# Altium integrated library Gennum Amplifier Pre-Amplifier.IntLib: 16 symbols
Pins are listed as number, name and electrical type; pins without a type are passive.

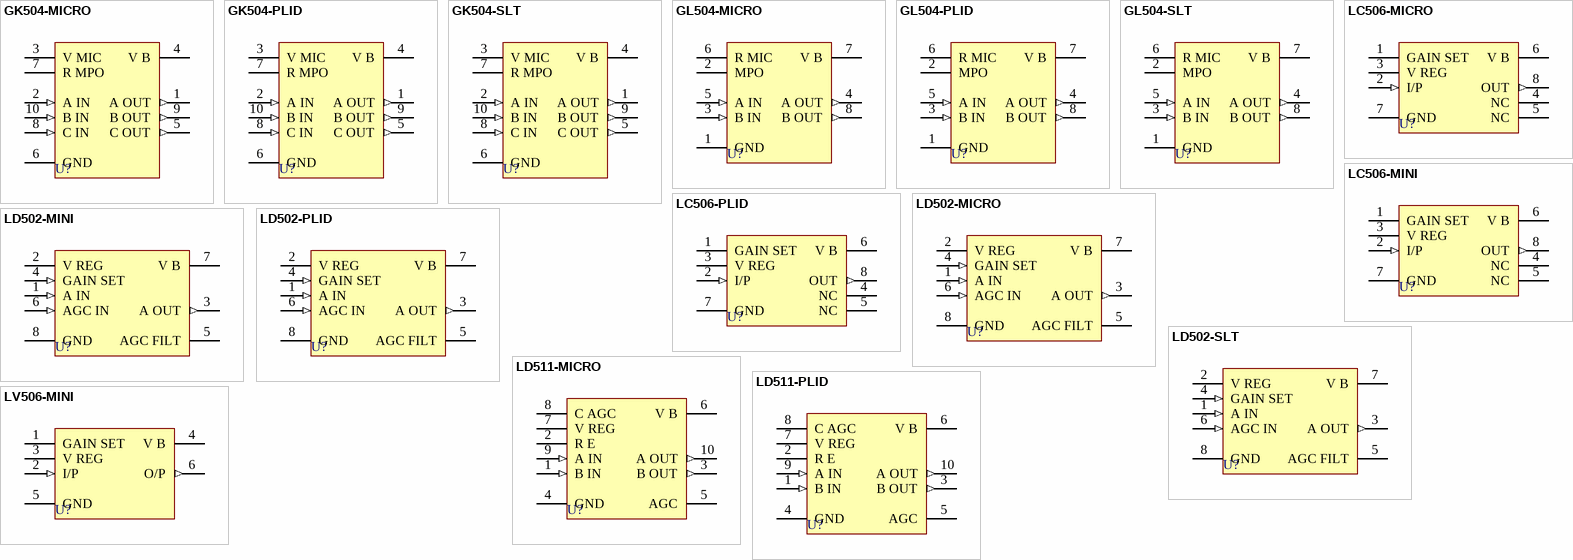
[diagram p0: symbols GK504-MICRO to LV506-MINI]

## GK504-MICRO
designator U?
Low Current Preamplifier with Output Limiting; Published: 8-Jun-2000; LatestRevisionDate: 04-Mar-2005; LatestRevisionNote: Stylized 3D Model Added.; DatasheetVersion: May-1998; PackageReference: MICRO10; Publisher: Altium Limited; PackageDescription: DFP; 10 Leads; Body 3.6 x 3.3 mm (LxW max); Pitch 0.635 mm; ComponentLink1Description: Manufacturer Link; ComponentLink1URL: http://www.gennum.com/index.html; ComponentLink2Description: Datasheet; ComponentLink2URL: http://www.gennum.com/hip/pdffiles/52046DOC.pdf
footprint MICRO10 (DFP; 10 Leads; Body 3.6 x 3.3 mm (LxW max); Pitch 0.635 mm)
3D model MICRO10 (DFP; 10 Leads; Body 3.6 x 3.3 mm (LxW max); Pitch 0.635 mm)
pins: 1 A OUT (out), 2 A IN (in), 3 V MIC, 4 V B (power), 5 C OUT (out), 6 GND (power), 7 R MPO, 8 C IN (in), 9 B OUT (out), 10 B IN (in)

## GK504-PLID
designator U?
Low Current Preamplifier with Output Limiting; Published: 8-Jun-2000; LatestRevisionDate: 17-Jul-2002; LatestRevisionNote: Re-released for DXP Platform.; DatasheetVersion: May-1998; PackageVersion: 1992; PackageReference: PLID10; Publisher: Altium Limited; PackageDescription: Small Outline; 10 C-Bend Leads; Body Width 3.2 mm; Pitch 0.635 mm; ComponentLink1Description: Manufacturer Link; ComponentLink1URL: http://www.gennum.com/index.html; ComponentLink2Description: Datasheet; ComponentLink2URL: http://www.gennum.com/hip/pdffiles/52046DOC.pdf
footprint PLID10 (Small Outline; 10 C-Bend Leads; Body Width 3.2 mm; Pitch 0.635 mm)
pins: 1 A OUT (out), 2 A IN (in), 3 V MIC, 4 V B (power), 5 C OUT (out), 6 GND (power), 7 R MPO, 8 C IN (in), 9 B OUT (out), 10 B IN (in)

## GK504-SLT
designator U?
Low Current Preamplifier with Output Limiting; Published: 8-Jun-2000; LatestRevisionDate: 17-Jul-2002; LatestRevisionNote: Re-released for DXP Platform.; DatasheetVersion: May-1998; PackageReference: SLT10; Publisher: Altium Limited; PackageDescription: Shrink DIP; 10 Stub Leads; Row Spacing 2.28 mm; Pitch 0.5 mm; ComponentLink1Description: Manufacturer Link; ComponentLink1URL: http://www.gennum.com/index.html; ComponentLink2Description: Datasheet; ComponentLink2URL: http://www.gennum.com/hip/pdffiles/52046DOC.pdf
footprint SLT10 (Shrink DIP; 10 Stub Leads; Row Spacing 2.28 mm; Pitch 0.5 mm)
pins: 1 A OUT (out), 2 A IN (in), 3 V MIC, 4 V B (power), 5 C OUT (out), 6 GND (power), 7 R MPO, 8 C IN (in), 9 B OUT (out), 10 B IN (in)

## GL504-MICRO
designator U?
Low Current Preamplifier with Output Limiting; Published: 8-Jun-2000; LatestRevisionDate: 04-Mar-2005; LatestRevisionNote: Stylized 3D Model Added.; DatasheetVersion: May-1998; PackageReference: MICRO8; Publisher: Altium Limited; PackageDescription: DFP; 8 Leads; Body 2.9 x 3.3 mm (LxW max); Pitch 0.635 mm; ComponentLink1Description: Manufacturer Link; ComponentLink1URL: http://www.gennum.com/index.html; ComponentLink2Description: Datasheet; ComponentLink2URL: http://www.gennum.com/hip/pdffiles/52046DOC.pdf
footprint MICRO8 (DFP; 8 Leads; Body 2.9 x 3.3 mm (LxW max); Pitch 0.635 mm)
3D model MICRO8 (DFP; 8 Leads; Body 2.9 x 3.3 mm (LxW max); Pitch 0.635 mm)
pins: 1 GND (power), 2 MPO, 3 B IN (in), 4 A OUT (out), 5 A IN (in), 6 R MIC, 7 V B (power), 8 B OUT (out)

## GL504-PLID
designator U?
Low Current Preamplifier with Output Limiting; Published: 8-Jun-2000; LatestRevisionDate: 17-Jul-2002; LatestRevisionNote: Re-released for DXP Platform.; DatasheetVersion: May-1998; PackageVersion: 1992; PackageReference: PLID8; Publisher: Altium Limited; PackageDescription: Small Outline; 8 C-Bend Leads; Body Width 3.2 mm; Pitch 0.635 mm; ComponentLink1Description: Manufacturer Link; ComponentLink1URL: http://www.gennum.com/index.html; ComponentLink2Description: Datasheet; ComponentLink2URL: http://www.gennum.com/hip/pdffiles/52046DOC.pdf
footprint PLID8 (Small Outline; 8 C-Bend Leads; Body Width 3.2 mm; Pitch 0.635 mm)
pins: 1 GND (power), 2 MPO, 3 B IN (in), 4 A OUT (out), 5 A IN (in), 6 R MIC, 7 V B (power), 8 B OUT (out)

## GL504-SLT
designator U?
Low Current Preamplifier with Output Limiting; Published: 8-Jun-2000; LatestRevisionDate: 17-Jul-2002; LatestRevisionNote: Re-released for DXP Platform.; DatasheetVersion: May-1998; PackageReference: SLT8; Publisher: Altium Limited; PackageDescription: Shrink DIP; 8 Stub Leads; Row Spacing 2.28 mm; Pitch 0.5 mm; ComponentLink1Description: Manufacturer Link; ComponentLink1URL: http://www.gennum.com/index.html; ComponentLink2Description: Datasheet; ComponentLink2URL: http://www.gennum.com/hip/pdffiles/52046DOC.pdf
footprint SLT8 (Shrink DIP; 8 Stub Leads; Row Spacing 2.28 mm; Pitch 0.5 mm)
pins: 1 GND (power), 2 MPO, 3 B IN (in), 4 A OUT (out), 5 A IN (in), 6 R MIC, 7 V B (power), 8 B OUT (out)

## LC506-MICRO
designator U?
Linear Class A Preamplifiers; Note: Pins 4,5 are No Connection; Published: 8-Jun-2000; LatestRevisionDate: 04-Mar-2005; LatestRevisionNote: Stylized 3D Model Added.; DatasheetVersion: Jan-1996; PackageReference: MICRO8; Publisher: Altium Limited; PackageDescription: DFP; 8 Leads; Body 2.9 x 3.3 mm (LxW max); Pitch 0.635 mm; ComponentLink1Description: Manufacturer Link; ComponentLink1URL: http://www.gennum.com/index.html; ComponentLink2Description: Datasheet; ComponentLink2URL: http://www.gennum.com/hip/pdffiles/50026DOC.pdf
footprint MICRO8 (DFP; 8 Leads; Body 2.9 x 3.3 mm (LxW max); Pitch 0.635 mm)
3D model MICRO8 (DFP; 8 Leads; Body 2.9 x 3.3 mm (LxW max); Pitch 0.635 mm)
pins: 1 GAIN SET, 2 I/P (in), 3 V REG, 4 NC, 5 NC, 6 V B (power), 7 GND (power), 8 OUT (out)

## LC506-MINI
designator U?
Linear Class A Preamplifiers; Note: Pins 4,5 are No Connection; Published: 8-Jun-2000; LatestRevisionDate: 04-Mar-2005; LatestRevisionNote: Stylized 3D Model Added.; DatasheetVersion: Jan-1996; PackageReference: MINI8; Publisher: Altium Limited; PackageDescription: DFP; 8 Leads; Body 3.7 x 3.6 mm (LxW max); Pitch 1.27 mm; ComponentLink1Description: Manufacturer Link; ComponentLink1URL: http://www.gennum.com/index.html; ComponentLink2Description: Datasheet; ComponentLink2URL: http://www.gennum.com/hip/pdffiles/50026DOC.pdf
footprint MINI8 (DFP; 8 Leads; Body 3.7 x 3.6 mm (LxW max); Pitch 1.27 mm)
3D model MINI8 (DFP; 8 Leads; Body 3.7 x 3.6 mm (LxW max); Pitch 1.27 mm)
pins: 1 GAIN SET, 2 I/P (in), 3 V REG, 4 NC, 5 NC, 6 V B (power), 7 GND (power), 8 OUT (out)

## LC506-PLID
designator U?
Linear Class A Preamplifiers; Note: Pins 4,5 are No Connection; Published: 8-Jun-2000; LatestRevisionDate: 17-Jul-2002; LatestRevisionNote: Re-released for DXP Platform.; DatasheetVersion: Jan-1996; PackageVersion: 1992; PackageReference: PLID8; Publisher: Altium Limited; PackageDescription: Small Outline; 8 C-Bend Leads; Body Width 3.2 mm; Pitch 0.635 mm; ComponentLink1Description: Manufacturer Link; ComponentLink1URL: http://www.gennum.com/index.html; ComponentLink2Description: Datasheet; ComponentLink2URL: http://www.gennum.com/hip/pdffiles/50026DOC.pdf
footprint PLID8 (Small Outline; 8 C-Bend Leads; Body Width 3.2 mm; Pitch 0.635 mm)
pins: 1 GAIN SET, 2 I/P (in), 3 V REG, 4 NC, 5 NC, 6 V B (power), 7 GND (power), 8 OUT (out)

## LD502-MICRO
designator U?
Low Distortion AGC Compression Amplifier; Published: 8-Jun-2000; LatestRevisionDate: 04-Mar-2005; LatestRevisionNote: Stylized 3D Model Added.; DatasheetVersion: Mar-1994; PackageReference: MICRO8; Publisher: Altium Limited; PackageDescription: DFP; 8 Leads; Body 2.9 x 3.3 mm (LxW max); Pitch 0.635 mm; ComponentLink1Description: Manufacturer Link; ComponentLink1URL: http://www.gennum.com/index.html; ComponentLink2Description: Datasheet; ComponentLink2URL: http://www.gennum.com/hip/pdffiles/50043DOC.pdf
footprint MICRO8 (DFP; 8 Leads; Body 2.9 x 3.3 mm (LxW max); Pitch 0.635 mm)
3D model MICRO8 (DFP; 8 Leads; Body 2.9 x 3.3 mm (LxW max); Pitch 0.635 mm)
pins: 1 A IN (in), 2 V REG, 3 A OUT (out), 4 GAIN SET (in), 5 AGC FILT, 6 AGC IN (in), 7 V B (power), 8 GND (power)

## LD502-MINI
designator U?
Low Distortion AGC Compression Amplifier; Published: 8-Jun-2000; LatestRevisionDate: 04-Mar-2005; LatestRevisionNote: Stylized 3D Model Added.; DatasheetVersion: Mar-1994; PackageReference: MINI8; Publisher: Altium Limited; PackageDescription: DFP; 8 Leads; Body 3.7 x 3.6 mm (LxW max); Pitch 1.27 mm; ComponentLink1Description: Manufacturer Link; ComponentLink1URL: http://www.gennum.com/index.html; ComponentLink2Description: Datasheet; ComponentLink2URL: http://www.gennum.com/hip/pdffiles/50043DOC.pdf
footprint MINI8 (DFP; 8 Leads; Body 3.7 x 3.6 mm (LxW max); Pitch 1.27 mm)
3D model MINI8 (DFP; 8 Leads; Body 3.7 x 3.6 mm (LxW max); Pitch 1.27 mm)
pins: 1 A IN (in), 2 V REG, 3 A OUT (out), 4 GAIN SET (in), 5 AGC FILT, 6 AGC IN (in), 7 V B (power), 8 GND (power)

## LD502-PLID
designator U?
Low Distortion AGC Compression Amplifier; Published: 8-Jun-2000; LatestRevisionDate: 17-Jul-2002; LatestRevisionNote: Re-released for DXP Platform.; DatasheetVersion: Mar-1994; PackageVersion: 1992; PackageReference: PLID8; Publisher: Altium Limited; PackageDescription: Small Outline; 8 C-Bend Leads; Body Width 3.2 mm; Pitch 0.635 mm; ComponentLink1Description: Manufacturer Link; ComponentLink1URL: http://www.gennum.com/index.html; ComponentLink2Description: Datasheet; ComponentLink2URL: http://www.gennum.com/hip/pdffiles/50043DOC.pdf
footprint PLID8 (Small Outline; 8 C-Bend Leads; Body Width 3.2 mm; Pitch 0.635 mm)
pins: 1 A IN (in), 2 V REG, 3 A OUT (out), 4 GAIN SET (in), 5 AGC FILT, 6 AGC IN (in), 7 V B (power), 8 GND (power)

## LD502-SLT
designator U?
Low Distortion AGC Compression Amplifier; Published: 8-Jun-2000; LatestRevisionDate: 17-Jul-2002; LatestRevisionNote: Re-released for DXP Platform.; DatasheetVersion: Mar-1994; PackageReference: SLT8; Publisher: Altium Limited; PackageDescription: Shrink DIP; 8 Stub Leads; Row Spacing 2.28 mm; Pitch 0.5 mm; ComponentLink1Description: Manufacturer Link; ComponentLink1URL: http://www.gennum.com/index.html; ComponentLink2Description: Datasheet; ComponentLink2URL: http://www.gennum.com/hip/pdffiles/50043DOC.pdf
footprint SLT8 (Shrink DIP; 8 Stub Leads; Row Spacing 2.28 mm; Pitch 0.5 mm)
pins: 1 A IN (in), 2 V REG, 3 A OUT (out), 4 GAIN SET (in), 5 AGC FILT, 6 AGC IN (in), 7 V B (power), 8 GND (power)

## LD511-MICRO
designator U?
Class A Compression Amplifier; Published: 8-Jun-2000; LatestRevisionDate: 04-Mar-2005; LatestRevisionNote: Stylized 3D Model Added.; DatasheetVersion: Jan-1996; PackageReference: MICRO10; Publisher: Altium Limited; PackageDescription: DFP; 10 Leads; Body 3.6 x 3.3 mm (LxW max); Pitch 0.635 mm; ComponentLink1Description: Manufacturer Link; ComponentLink1URL: http://www.gennum.com/index.html; ComponentLink2Description: Datasheet; ComponentLink2URL: http://www.gennum.com/hip/pdffiles/50059DOC.pdf
footprint MICRO10 (DFP; 10 Leads; Body 3.6 x 3.3 mm (LxW max); Pitch 0.635 mm)
3D model MICRO10 (DFP; 10 Leads; Body 3.6 x 3.3 mm (LxW max); Pitch 0.635 mm)
pins: 1 B IN (in), 2 R E, 3 B OUT (out), 4 GND (power), 5 AGC, 6 V B (power), 7 V REG, 8 C AGC, 9 A IN (in), 10 A OUT (out)

## LD511-PLID
designator U?
Class A Compression Amplifier; Published: 8-Jun-2000; LatestRevisionDate: 17-Jul-2002; LatestRevisionNote: Re-released for DXP Platform.; DatasheetVersion: Jan-1996; PackageVersion: 1992; PackageReference: PLID10; Publisher: Altium Limited; PackageDescription: Small Outline; 10 C-Bend Leads; Body Width 3.2 mm; Pitch 0.635 mm; ComponentLink1Description: Manufacturer Link; ComponentLink1URL: http://www.gennum.com/index.html; ComponentLink2Description: Datasheet; ComponentLink2URL: http://www.gennum.com/hip/pdffiles/50059DOC.pdf
footprint PLID10 (Small Outline; 10 C-Bend Leads; Body Width 3.2 mm; Pitch 0.635 mm)
pins: 1 B IN (in), 2 R E, 3 B OUT (out), 4 GND (power), 5 AGC, 6 V B (power), 7 V REG, 8 C AGC, 9 A IN (in), 10 A OUT (out)

## LV506-MINI
designator U?
Linear Class A Preamplifiers; Published: 8-Jun-2000; LatestRevisionDate: 04-Mar-2005; LatestRevisionNote: Stylized 3D Model Added.; DatasheetVersion: Jan-1996; PackageReference: MINI6; Publisher: Altium Limited; PackageDescription: DFP; 6 Leads; Body 3.7 x 3.6 mm (LxW max); Pitch 1.27 mm; ComponentLink1Description: Manufacturer Link; ComponentLink1URL: http://www.gennum.com/index.html; ComponentLink2Description: Datasheet; ComponentLink2URL: http://www.gennum.com/hip/pdffiles/50026DOC.pdf
footprint MINI6 (DFP; 6 Leads; Body 3.7 x 3.6 mm (LxW max); Pitch 1.27 mm)
3D model MINI6 (DFP; 6 Leads; Body 3.7 x 3.6 mm (LxW max); Pitch 1.27 mm)
pins: 1 GAIN SET, 2 I/P (in), 3 V REG, 4 V B (power), 5 GND (power), 6 O/P (out)